# Altium schematic symbol library Battery Holder.SchLib: 3 symbols
Pins are listed as number, name and electrical type; pins without a type are passive.

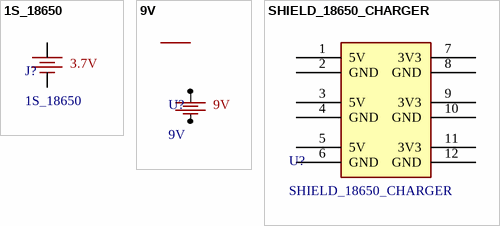
[diagram p0: symbols 1S_18650 to SHIELD_18650_CHARGER]

## 1S_18650
designator J?
Battery 18650 Holder for 1 Cell, SMD or PTH Version
footprint 1S_18650_PTH (Battery 18650 Holder for 1 Cell, PTH Version)
footprint 1S_18650_SMD (Battery 18650 Holder for 1 Cell, SMD Version)
pins: 1, 2
text: 3.7V

## 9V
designator U?
9V Battery Holder, only Representative, no Connection to Board
footprint 9V (9V Battery Holder, Representative, no Connection to Board)

## SHIELD_18650_CHARGER
designator U?
footprint SHIELD_18650_CHARGER
pins: 1 5V, 2 GND, 3 5V, 4 GND, 5 5V, 6 GND, 7 3V3, 8 GND, 9 3V3, 10 GND, 11 3V3, 12 GND